# Altium schematic symbol library power_supplies_barrety_management.SchLib: 7 symbols
Pins are listed as number, name and electrical type; pins without a type are passive.

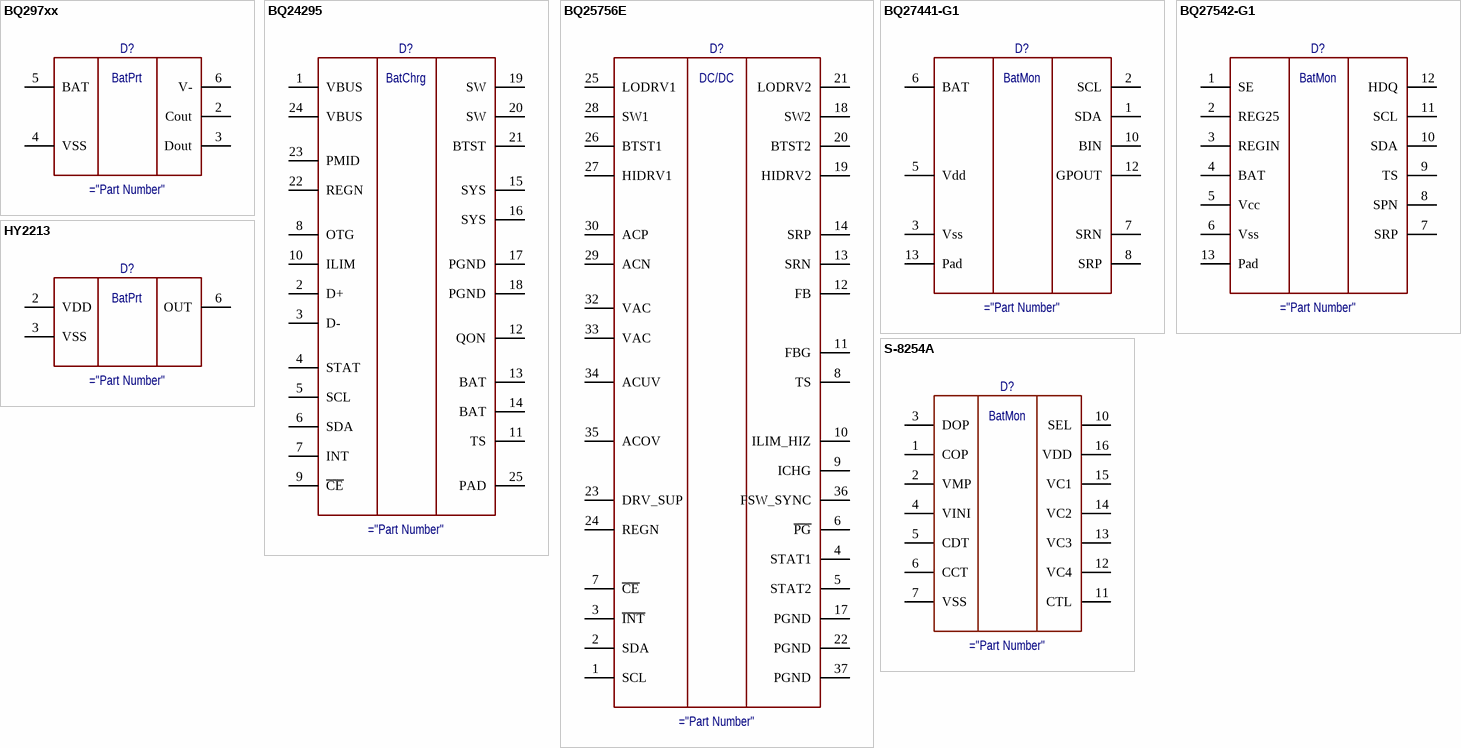
[diagram p0: symbols BQ297xx to S-8254A]

## BQ297xx
designator D?
Battery Protection
pins: 1 NC hidden, 2 Cout, 3 Dout, 4 VSS, 5 BAT, 6 V-
text: BatPrt

## BQ24295
designator D?
Battery Charger 3A
pins: 1 VBUS, 2 D+, 3 D-, 4 STAT, 5 SCL, 6 SDA, 7 INT, 8 OTG, 9 ~{CE}, 10 ILIM, 11 TS, 12 QON, 13 BAT, 14 BAT, 15 SYS, 16 SYS, 17 PGND, 18 PGND, 19 SW, 20 SW, 21 BTST, 22 REGN, 23 PMID, 24 VBUS, 25 PAD
text: BatChrg

## BQ25756E
designator D?
Li-ion charger
pins: 1 SCL, 2 SDA, 3 ~{INT}, 4 STAT1, 5 STAT2, 6 ~{PG}, 7 ~{CE}, 8 TS, 9 ICHG, 10 ILIM_HIZ, 11 FBG, 12 FB, 13 SRN, 14 SRP, 17 PGND, 18 SW2, 19 HIDRV2, 20 BTST2, 21 LODRV2, 22 PGND, 23 DRV_SUP, 24 REGN, 25 LODRV1, 26 BTST1, 27 HIDRV1, 28 SW1, 29 ACN, 30 ACP, 32 VAC, 33 VAC, 34 ACUV, 35 ACOV, 36 FSW_SYNC, 37 PGND
text: DC/DC

## BQ27441-G1
designator D?
Battery Monitor
pins: 1 SDA, 2 SCL, 3 Vss, 4 NC hidden, 5 Vdd, 6 BAT, 7 SRN, 8 SRP, 9 NC hidden, 10 BIN, 11 NC hidden, 12 GPOUT, 13 Pad
text: BatMon

## BQ27542-G1
designator D?
Battery Monitor
pins: 1 SE, 2 REG25, 3 REGIN, 4 BAT, 5 Vcc, 6 Vss, 7 SRP, 8 SPN, 9 TS, 10 SDA, 11 SCL, 12 HDQ, 13 Pad, 14 PPAD hidden, 15 PPAD hidden, 16 PPAD hidden, 17 PPAD hidden, 18 PPAD hidden, 19 PPAD hidden, 20 PPAD hidden
text: BatMon

## HY2213
designator D?
Battery Protection
pins: 1 NC hidden, 2 VDD, 3 VSS, 4 NC hidden, 5 NC hidden, 6 OUT
text: BatPrt

## S-8254A
designator D?
BATTERY PROTECTION IC / FOR 3-SERIAL- OR 4-SERIAL-CELL PACK
pins: 1 COP, 2 VMP, 3 DOP, 4 VINI, 5 CDT, 6 CCT, 7 VSS, 10 SEL, 11 CTL, 12 VC4, 13 VC3, 14 VC2, 15 VC1, 16 VDD
text: BatMon